# EAGLE library part PIC16LF1847 (library components)
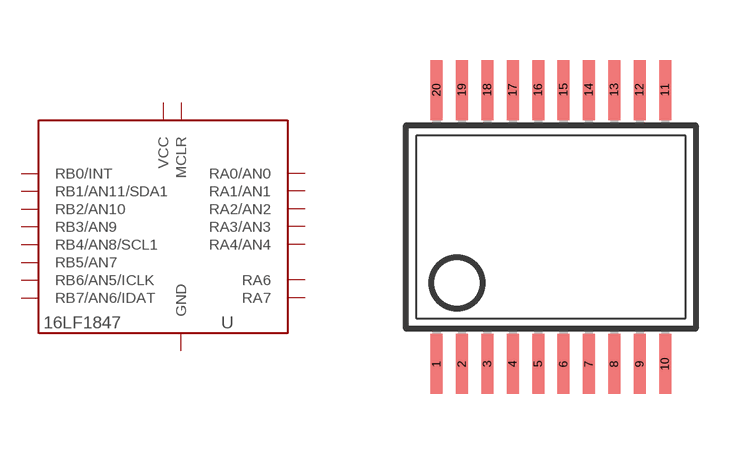
[diagram p40: symbol with the pads of SSOP20; footprint SSOP20]

Designator prefix U

## PIC16LF1847 (DIGIKEY-PN: PIC16LF1847-I/SS-ND)  [SSOP20]
1  RA2/AN2
2  RA3/AN3
3  RA4/AN4
4  MCLR
5  GND  pwr
6  GND  pwr
7  RB0/INT
8  RB1/AN11/SDA1
9  RB2/AN10
10  RB3/AN9
11  RB4/AN8/SCL1
12  RB5/AN7
13  RB6/AN5/ICLK
14  RB7/AN6/IDAT
15  VCC  pwr
16  VCC  pwr
17  RA6
18  RA7
19  RA0/AN0
20  RA1/AN1

## Footprint SSOP20 (pad centres in mm)
Small Shrink Outline Package
smd 0.3 x 1.5: 1 -2.857,-3.431; 2 -2.222,-3.431; 3 -1.587,-3.431; 4 -0.952,-3.431; 5 -0.317,-3.431; 6 0.318,-3.431; 7 0.953,-3.431; 8 1.588,-3.431; 9 2.223,-3.431; 10 2.858,-3.431; 11 2.858,3.431; 12 2.219,3.431; 13 1.588,3.431; 14 0.953,3.431; 15 0.318,3.431; 16 -0.317,3.431; 17 -0.952,3.431; 18 -1.587,3.431; 19 -2.222,3.431; 20 -2.857,3.431